# Altium footprint library urm37.PcbLib: 1 footprints
Each footprint in its own frame and in the unit in brackets; x right, y up, seen from the top. Pads: shape width x height; smd on the part's side, far side on the other; paste and mask are expansions set on the pad; w line width, h text height; cw(c..) or ccw(c..) is an arc to the next point about the centre after c.
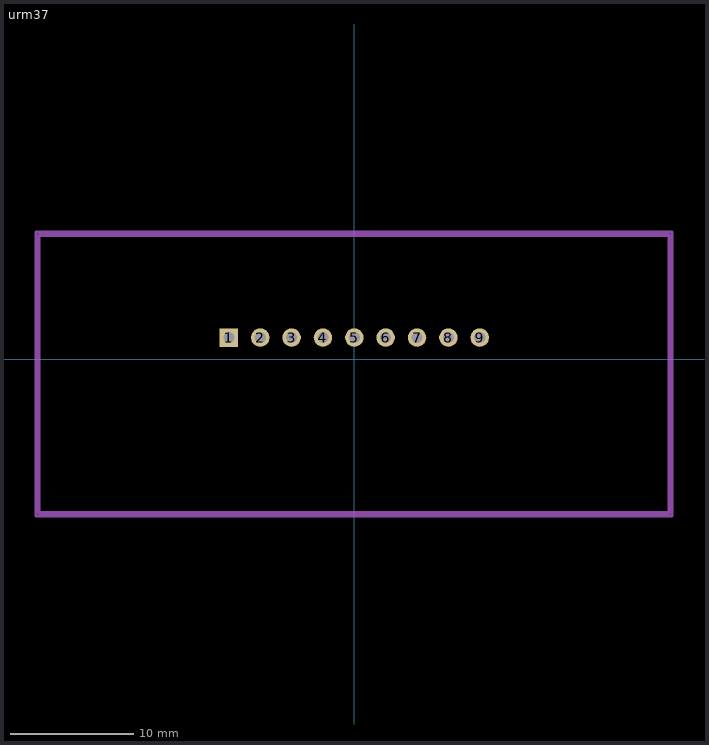
[diagram p0: the footprint, top view; thin cyan lines are the x and y axes]

## urm37 [mm]
pads (9):
  rect 1.5x1.5 hole 0.9: 1(-10.134,1.748)
  round 1.5 hole 0.9: 2(-7.594,1.748) 3(-5.054,1.748) 4(-2.514,1.748) 5(0.026,1.748) 6(2.566,1.748) 7(5.106,1.748) 8(7.646,1.748) 9(10.186,1.748)
Bottom Overlay:
  lines w0.2: -11.404,0.478 11.456,0.478 11.456,3.018 -11.404,3.018 -11.404,0.478
Top Assembly:
  lines w0.254: -25.527,-12.446 -25.527,10.033 25.527,10.033 25.527,-12.446 -25.527,-12.446
Top Courtyard:
  lines w0.254: -25.781,-12.7 -25.781,10.287 -25.654,10.287 25.781,10.287 25.781,-12.7 -25.781,-12.7
3D body "URM37.STEP": height -4.9, standoff -26.9, extent -25.5,-12.5 25.5,10
3D body "22288092.stp": height 7.25, standoff -3.34, extent -11.43,-2.873 11.43,3.045